# EAGLE library part TC74ATC14(ELLIPSE) (library TC74ACT14)
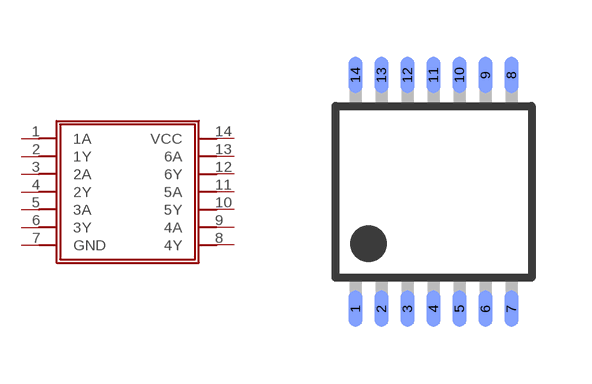
[diagram p1: symbol with the pads of TC74ATC14(ELLIPSE); footprint TC74ATC14(ELLIPSE)]

Designator prefix -

## TC74ATC14(ELLIPSE)  [TC74ATC14(ELLIPSE)]
1  1A
2  1Y
3  2A
4  2Y
5  3A
6  3Y
7  GND
8  4Y
9  4A
10  5Y
11  5A
12  6Y
13  6A
14  VCC

## Footprint TC74ATC14(ELLIPSE) (pad centres in mm)
smd 0.35 x 0.9 bottom: 1 -1.569,-3.052; 2 -0.919,-3.052; 3 -0.269,-3.052; 4 0.381,-3.052; 5 1.031,-3.052; 6 1.681,-3.052; 7 2.331,-3.052; 8 2.331,2.798; 9 1.681,2.798; 10 1.031,2.798; 11 0.381,2.798; 12 -0.269,2.798; 13 -0.919,2.798; 14 -1.569,2.798